# EAGLE library part RKJXV122400R (library RKJXV122400R)
Multi Control Devices Potentiometer Type ThumbPointer (Stick Controller) RKJXV Series Source: Datasheet <https://tech.alpsalpine.com/prod/e/html/multicontrol/potentiometer/rkjxk/rkjxv122400r.html>
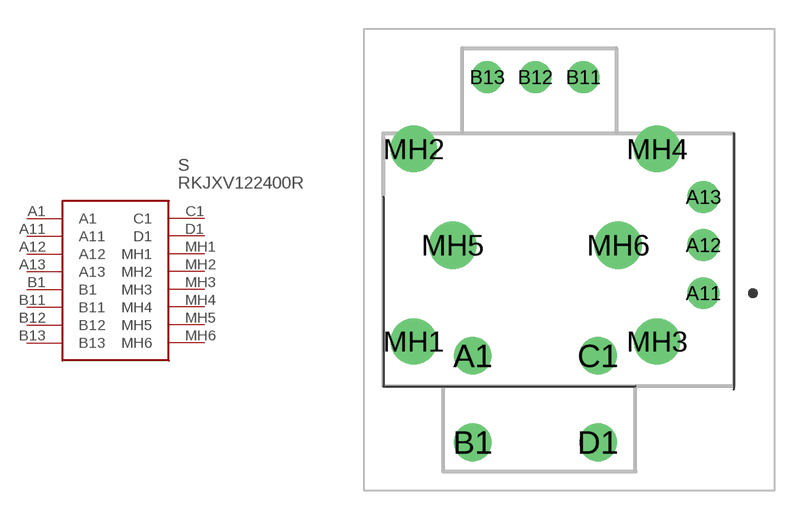
[diagram p0: symbol with the pads of RKJXV122400R; footprint RKJXV122400R]

Designator prefix S

## RKJXV122400R (Description: Multi Control Devices Potentiometer Type ThumbPointer (Stick Controller) RKJXV Series; Height: 18.95mm; Manufacturer_Name: ALPS Electric; Manufacturer_Part_Number: RKJXV122400R; Mouser_Part_Number: 688-RKJXV122400R; Mouser_Price-Stock: https://www.mouser.co.uk/ProductDetail/Alps-Alpine/RKJXV122400R?qs=GedFDFLaBXEbB%252ByoOVwLBg%3D%3D)  [RKJXV122400R]
A1  A1
A11  A11
A12  A12
A13  A13
B1  B1
B11  B11
B12  B12
B13  B13
C1  C1
D1  D1
MH1  MH1
MH2  MH2
MH3  MH3
MH4  MH4
MH5  MH5
MH6  MH6

## Footprint RKJXV122400R (pad centres in mm)
RKJXV122400R-4
drill 1.3 pad 1.95: A1 -11.98,-3.25; B1 -11.98,-7.75; C1 -5.48,-3.25; D1 -5.48,-7.75
drill 1.1 pad 1.65: A11 0,0; A12 0,2.5; A13 0,5; B11 -6.23,11.23; B12 -8.73,11.23; B13 -11.23,11.23
drill 1.6 pad 2.4: MH1 -15.055,-2.5; MH2 -15.055,7.5; MH3 -2.405,-2.5; MH4 -2.405,7.5
drill 1.65 pad 2.475: MH5 -13.03,2.5; MH6 -4.43,2.5